# Altium schematic symbol library lamp_controller.SchLib: 88 symbols (part 1 of 3)
Pins are listed as number, name and electrical type; pins without a type are passive.

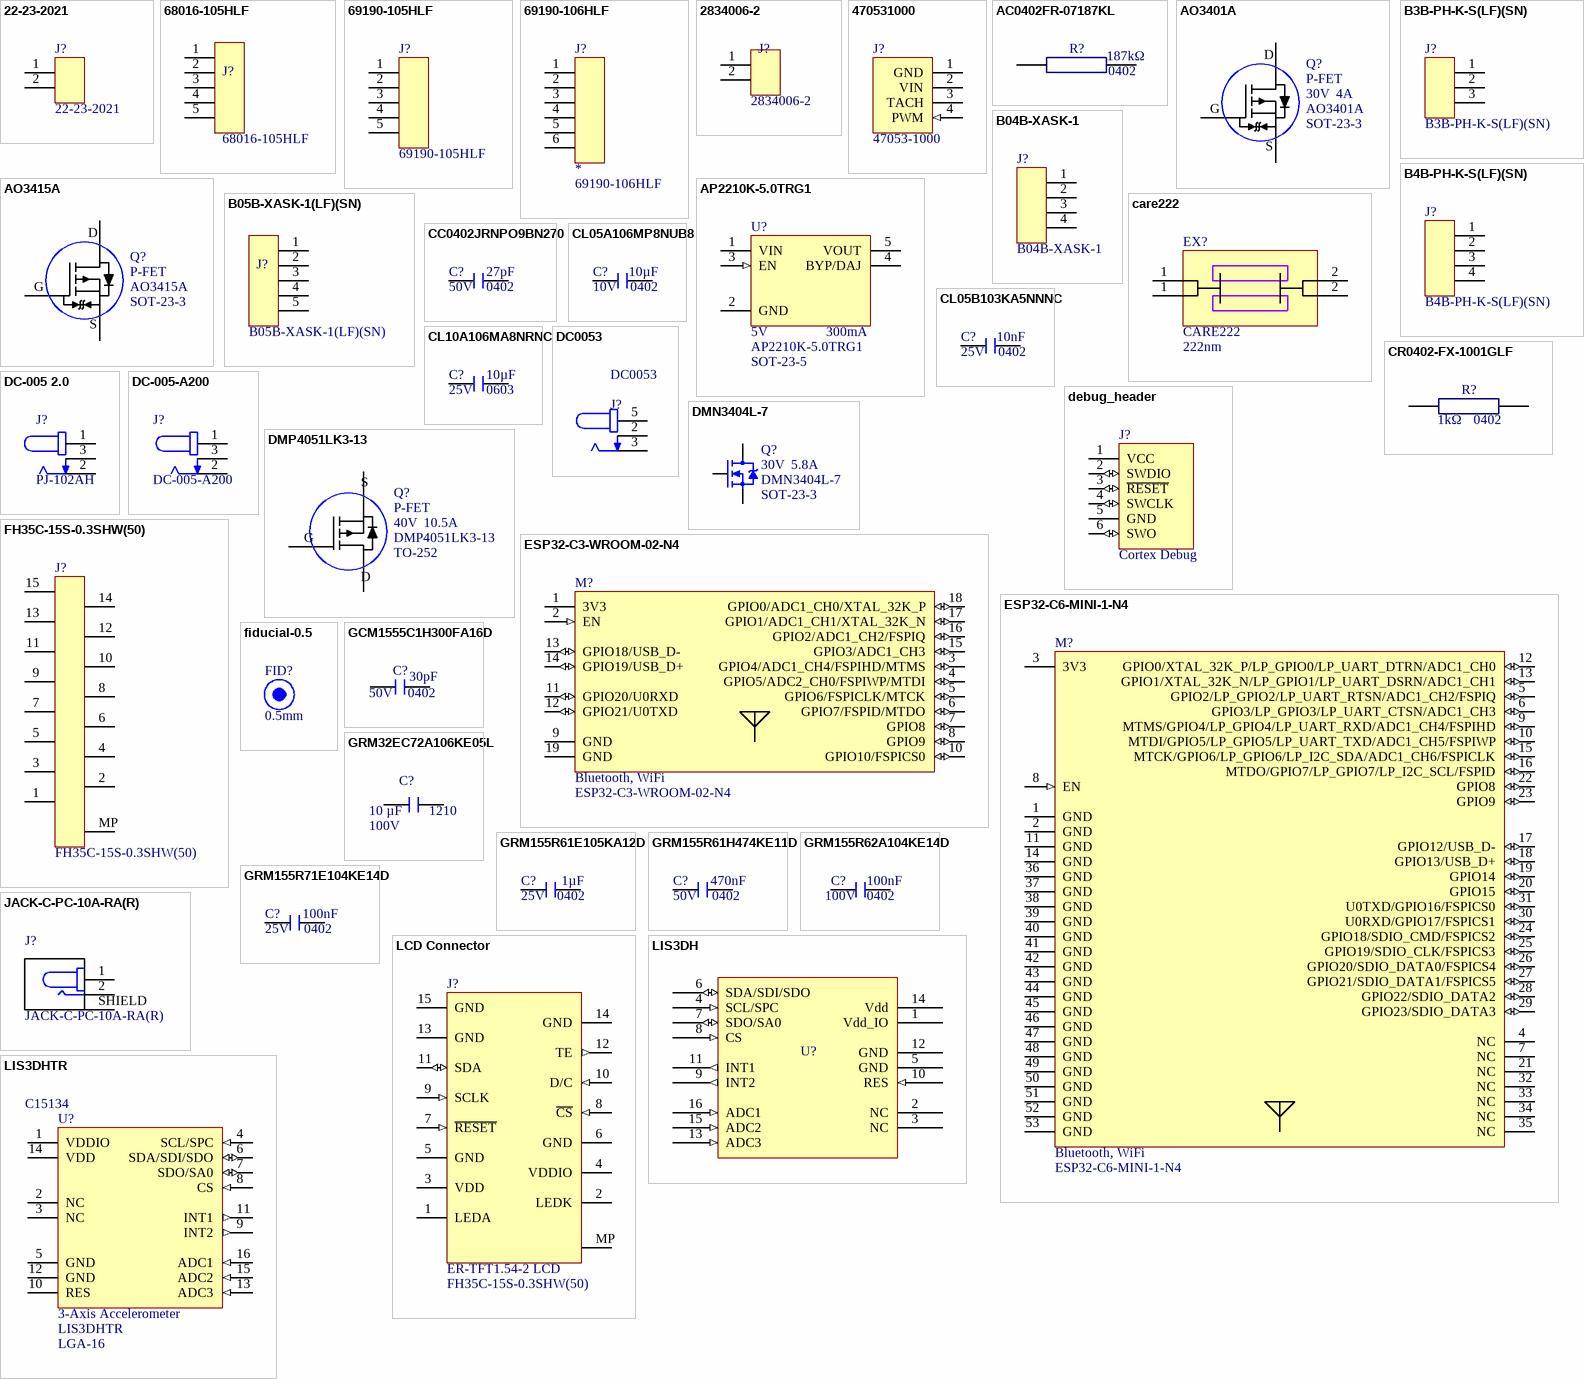
[diagram p0: symbols 22-23-2021 to LIS3DHTR]

## 22-23-2021
designator J?  Manufacturer Part Number: 22-23-2021  (hidden comment: *)
2-Pin 0.1" header, through-hole; Manufacturer: Molex; Connector Type: BOARD CONNECTOR; Option: General Purpose; Body/Shell Style: RECEPTACLE; Contact Pattern: RECTANGULAR; Contact Resistance: 10mR; Contact Style: SQ PIN-SKT; Filter Feature: No; Insertion Force-Max: 4.8928N; Insulation Resistance: 1GR; Mating Information: MULTIPLE MATING PARTS AVAILABLE; Number Of Connectors: 1; Number of Contacts: 2; Body Breadth: 0.25inch; Body Depth: 0.322inch; Body Length: 0.194inch; Mating Contact Pitch: 0.1inch; Mounting Option 1: FRICTION LOCK; Mounting Option 2: LOCKING; Plating Thickness: 100uin; Reference Standard: UL; Reliability: COMMERCIAL; Supplier 1: LCSC; RoHS: Yes; Category: Headers and Wire Housings; Stock 1: 9755; Pricing 1: 5=0.0881, 50=0.0704, 150=0.0615, 500=0.0548, 2850=0.0481, 5700=0.0454 (USD); Mounting Technology: Board; Contact Material: Brass; Contact Finish - Mating: NOT SPECIFIED; Contact Finish - Termination: Matte Tin/Copper (Sn/Cu); Insulation Color: White; Insulation Material: Nylon; JESD-609 Code: e2; Contact Gender: Male; Mixed Contacts: No; Mounting Style: STRAIGHT; Number Of PCB Rows: 1; Number of Rows Loaded: 1; PCB Contact Pattern: RECTANGULAR; Termination: Solder; Terminal Length: 0.14inch; Terminal Pitch: 2.54mm; Flammability Rating: UL94 V-0; DIN Conformance: No; IEC Conformance: No; MIL Conformance: No; Reach SVHC Compliant: Yes; RoHS Compliant: Yes; ComponentLink1URL: https://datasheet.ciiva.com:443/pdfs/VipMasterIC/IC/MOLE/MOLE-S-A0002956908/MOLE-S-A0002956550-1.pdf?src-supplier=IHS+Markit; ComponentLink1Description: https://datasheet.ciiva.com:443/pdfs/VipMasterIC/IC/MOLE/MOLE-S-A0002956908/MOLE-S-A0002956550-1.pdf?src-supplier=IHS+Markit; ComponentLink2URL: https://datasheet.ciiva.com/11746/0900766b80d8f4d1-11746058.pdf?src-supplier=Rs; ComponentLink2Description: https://datasheet.ciiva.com/11746/0900766b80d8f4d1-11746058.pdf?src-supplier=Rs; ComponentLink3URL: https://datasheet.ciiva.com/22683/1834442-22683561.pdf?src-supplier=Element14; ComponentLink3Description: https://datasheet.ciiva.com/22683/1834442-22683561.pdf?src-supplier=Element14; Supplier Part Number 1: C234180
footprint 22012027
pins: 1, 2

## 68016-105HLF
designator J?  Manufacturer Part Number: 68016-105HLF  (hidden comment: *)
Right Angle 5 position header, unshrouded, 0.100" (2.54mm); Manufacturer: Amphenol ICC / FCI; Number of Positions: 5; Current Rating: 3A; Insulation Resistance: 5GR; Voltage Rating: 1.5kV; Contact Post Length: 3.05mm; Supplier: Avnet; Supplier Part Number: 51Y8065; RoHS: No; Category: Connectors; Stock: 1974; Pricing: 1=0.518, 10=0.438, 25=0.418, 50=0.399, 100=0.38 (USD); Mounting Technology: Through Hole; Contact Plating: Gold,GXT; Contact Material: Bronze; Color: Black; Housing Material: Thermoplastic; Housing Color: Black; Min Operating Temperature: -65°C; Max Operating Temperature: 125°C; Number of Rows: 1; Termination: Solder; Contact Gender: Male; Series: BERGSTIK® II, MezzSelect™, Basics+; Packaging: Bulk; Package Quantity: 100; Contact Type: Male Pin; Number of Contacts: 5; Orientation: Right Angle; Max Voltage Rating (AC): 1.5kV; Length: 12.7mm; Pitch: 2.54mm; Contact Mating Length: 0.23inch; Depth: 9.9mm; Radiation Hardening: No; Flammability Rating: UL94 V-0; ComponentLink1URL: http://portal.fciconnect.com/Comergent/fci/drawing/68015.pdf?src-supplier=Avnet; ComponentLink1Description: http://portal.fciconnect.com/Comergent/fci/drawing/68015.pdf?src-supplier=Avnet; ComponentLink2URL: http://components.arrow.com/part/dataview/41914664S9531290N8314?src-supplier=Arrow+Electronics; ComponentLink2Description: http://components.arrow.com/part/dataview/41914664S9531290N8314?src-supplier=Arrow+Electronics; ComponentLink3URL: http://portal.fciconnect.com/Comergent//fci/drawing/68015.pdf?src-supplier=Digi-Key; ComponentLink3Description: http://portal.fciconnect.com/Comergent//fci/drawing/68015.pdf?src-supplier=Digi-Key; ComponentLink4URL: http://www.mouser.com/ds/2/154/bus-12-050-356030.pdf?src-supplier=Mouser; ComponentLink4Description: http://www.mouser.com/ds/2/154/bus-12-050-356030.pdf?src-supplier=Mouser
footprint 68016-105HLF (5-pin 0.1" header, right angle)
pins: 1, 2, 3, 4, 5

## 69190-105HLF
designator J?  Manufacturer Part Number: 69190-105HLF  (hidden comment: *)
5-pin 0.1" unshrouded header pins; Manufacturer: Amphenol ICC / FCI; Manufacturer Series: 69190; Connector Type: BOARD CONNECTOR; Option: General Purpose; Contact Pattern: RECTANGULAR; Contact Style: SQ PIN-SKT; Filter Feature: No; Number Of Connectors: 1; Number of Contacts: 5; Body Breadth: 0.095inch; Body Depth: 0.1inch; Body Length: 0.5inch; Mounting Option 1: LOCKING; Plating Thickness: 30uin; Reference Standard: UL; Reliability: COMMERCIAL; Supplier 1: Digi-Key; RoHS: Yes; Category: Connectors; Stock 1: 3670; Pricing 1: 1=0.47, 10=0.402, 100=0.3123, 500=0.26768, 1000=0.22306, 5000=0.19119, 10000=0.17845 (USD); Mounting Technology: Board; Contact Material: Bronze; Contact Finish - Termination: GOLD (30) OVER NICKEL/NICKEL PALLADIUM GOLD (30) OVER NICKEL; Insulation Color: Black; JESD-609 Code: e4; Contact Gender: Male; Mixed Contacts: No; Mounting Style: STRAIGHT; Number Of PCB Rows: 1; Number of Rows Loaded: 1; PCB Contact Pattern: RECTANGULAR; Termination: Solder; Mating Contact Pitch: 0.1inch; Terminal Length: 0.12inch; Terminal Pitch: 2.54mm; Flammability Rating: UL94 V-0; DIN Conformance: No; IEC Conformance: No; MIL Conformance: No; Reach SVHC Compliant: Yes; RoHS Compliant: Yes; ComponentLink1URL: https://datasheet.ciiva.com/721/69190-721296.pdf?src-supplier=Digi-Key; ComponentLink1Description: https://datasheet.ciiva.com/721/69190-721296.pdf?src-supplier=Digi-Key; Supplier Part Number 1: 609-69190-105HLF-ND
footprint 69190-105HLF (5-pin 0.1" header)
pins: 1, 2, 3, 4, 5

## 69190-106HLF
designator J?  Manufacturer Part Number: 69190-106HLF
6-Pin 0.1" unshrouded header pins; Manufacturer: Amphenol ICC / FCI; Manufacturer Series: 69190; Connector Type: BOARD CONNECTOR; Option: General Purpose; Contact Pattern: RECTANGULAR; Contact Style: SQ PIN-SKT; Filter Feature: No; Number Of Connectors: 1; Number of Contacts: 6; Body Breadth: 0.095inch; Body Depth: 0.1inch; Body Length: 0.6inch; Mounting Option 1: LOCKING; Plating Thickness: 30uin; Reference Standard: UL; Reliability: COMMERCIAL; Supplier 1: Mouser; RoHS: Yes; Category: Connectors; Pricing 1: 1=0.67, 10=0.521, 50=0.521, 100=0.457, 1000=0.343, 10000=0.309 (USD); Mounting Technology: Board; Contact Material: Bronze; Contact Finish - Termination: GOLD (30) OVER NICKEL/NICKEL PALLADIUM GOLD (30) OVER NICKEL; Insulation Color: Black; JESD-609 Code: e4; Contact Gender: Male; Mixed Contacts: No; Mounting Style: STRAIGHT; Number Of PCB Rows: 1; Number of Rows Loaded: 1; PCB Contact Pattern: RECTANGULAR; Termination: Solder; Mating Contact Pitch: 0.1inch; Terminal Length: 0.12inch; Terminal Pitch: 2.54mm; Flammability Rating: UL94 V-0; DIN Conformance: No; IEC Conformance: No; MIL Conformance: No; Reach SVHC Compliant: Yes; RoHS Compliant: Yes; ComponentLink1URL: https://datasheet.ciiva.com/721/69190-721132.pdf?src-supplier=Digikey; ComponentLink1Description: https://datasheet.ciiva.com/721/69190-721132.pdf?src-supplier=Digikey; Supplier Part Number 1: 649-69190-106HLF
footprint 69190-106HLF (6-pin 0.1" header)
pins: 1, 2, 3, 4, 5, 6

## 2834006-2
designator J?  Manufacturer Part Number: 2834006-2  (hidden comment: *)
2-Pin Barrier Strip Terminal Block; Manufacturer: TE Connectivity; Supplier 1: LCSC; RoHS: Yes; Category: Connectors; Stock 1: 6498; Pricing 1: 1=0.4073, 10=0.3326, 30=0.3007, 100=0.261, 500=0.2212, 800=0.21 (USD); Terminal and Terminal Block Type: BARRIER STRIP TERMINAL BLOCK; Reach SVHC Compliant: Yes; RoHS Compliant: Yes; ComponentLink1URL: https://datasheet.ciiva.com:443/pdfs/VipMasterIC/IC/TYEL/TYEL-S-A0008901127/TYEL-S-A0008894062-1.pdf?src-supplier=IHS+Markit; ComponentLink1Description: https://datasheet.ciiva.com:443/pdfs/VipMasterIC/IC/TYEL/TYEL-S-A0008901127/TYEL-S-A0008894062-1.pdf?src-supplier=IHS+Markit; ComponentLink2URL: http://www.mouser.com/ds/2/418/NG_CD_2834006_A-773085.pdf?src-supplier=Mouser; ComponentLink2Description: http://www.mouser.com/ds/2/418/NG_CD_2834006_A-773085.pdf?src-supplier=Mouser; ComponentLink3URL: http://www.farnell.com/datasheets/2299783.pdf?src-supplier=Farnell; ComponentLink3Description: http://www.farnell.com/datasheets/2299783.pdf?src-supplier=Farnell; ComponentLink4URL: http://www.farnell.com/datasheets/2299783.pdf?src-supplier=Element14; ComponentLink4Description: http://www.farnell.com/datasheets/2299783.pdf?src-supplier=Element14; ComponentLink5URL: http://www.farnell.com/datasheets/2017940.pdf?src-supplier=Element14; ComponentLink5Description: http://www.farnell.com/datasheets/2017940.pdf?src-supplier=Element14; ComponentLink6URL: https://www.te.com/commerce/DocumentDelivery/DDEController?Action=srchrtrv&amp;DocNm=2834006&amp;DocType=Customer+Drawing&amp;DocLang=English&src-supplier=Digi-Key; ComponentLink6Description: https://www.te.com/commerce/DocumentDelivery/DDEController?Action=srchrtrv&amp;DocNm=2834006&amp;DocType=Customer+Drawing&amp;DocLang=English&src-supplier=Digi-Key; Supplier Part Number 1: C86483
footprint 2834006-2 (2-Pin spring clamp terminal)
pins: 1, 2

## 470531000
designator J?  Manufacturer Part Number: 47053-1000  (hidden comment: *)
4-pin PC Fan connector; Manufacturer: Molex; Number of Positions: 4; Connector Type: Male Pin; Gender: Male; Pitch: 0.1inch; RoHS: Yes; Category: Headers and Wire Housings; Mount: Through Hole; Color: White; Contact Plating: Gold; Package Quantity: 2000; Number of Rows: 1; Fastening Type: Friction; Packaging: Bulk; Termination: Solder; Number of Contacts: 4; Contact Mating Length: 0.318inch; ComponentLink1URL: https://datasheet.ciiva.com/6839/022112026-sd-6839692.pdf?src-supplier=Digi-Key; ComponentLink1Description: https://datasheet.ciiva.com/6839/022112026-sd-6839692.pdf?src-supplier=Digi-Key; ComponentLink2URL: https://datasheet.ciiva.com/10090/022232051-sd-10090167.pdf?src-supplier=Avnet; ComponentLink2Description: https://datasheet.ciiva.com/10090/022232051-sd-10090167.pdf?src-supplier=Avnet
footprint 470531000
pins: 1 GND (power), 2 VIN (power), 3 TACH (oc), 4 PWM (in)

## AC0402FR-07187KL
designator R?  Case/Package: 0402  Resistance: 187kΩ  (hidden comment: *)
187 kΩ, 1%, 0402 Chip resistor; Manufacturer: Yageo; Manufacturer Part Number: AC0402FR-07187KL; Additional Feature: LASER TRIMMABLE; Power: 62.5mW; Rated Temperature: 70°C; Working Voltage: 50V; Temperature Coefficient (ppm/Cel): 100; Package Height: 0.32mm; Package Length: 1mm; Package Width: 0.5mm; Reference Standard: AEC-Q200; Supplier 1: Digikey; RoHS: Yes; Category: Chip SMD Resistors; Stock 1: 17067; Pricing 1: 1=0.1, 10=0.005, 50=0.0046, 100=0.0041, 500=0.00306, 10000=0.00204, 20000=0.00194, 30000=0.00183 (USD); Mounting Technology: Surface Mount; Pins: 2; Package Shape: Rectangular; Terminal Finish: Nickel; Min Operating Temperature: -55°C; Max Operating Temperature: 155°C; Tolerance: 1%; JESD-609 Code: e3; Resistor Type: FIXED RESISTOR; Construction: Chip; Packaging: Tape and Reel; Technology: METAL GLAZE/THICK FILM; Termination: Wraparound; Reach SVHC Compliant: Yes; RoHS Compliant: Yes; ComponentLink1URL: https://datasheet.ciiva.com:443/pdfs/VipMasterIC/IC/YAGO/YAGO-S-A0003597364/YAGO-S-A0003597364-1.pdf?src-supplier=IHS+Markit; ComponentLink1Description: https://datasheet.ciiva.com:443/pdfs/VipMasterIC/IC/YAGO/YAGO-S-A0003597364/YAGO-S-A0003597364-1.pdf?src-supplier=IHS+Markit; ComponentLink2URL: http://www.yageo.com/NewPortal/yageodocoutput?fileName=/pdf/R-Chip/PYu-AC_51_RoHS_L_6.pdf&src-supplier=Digikey; ComponentLink2Description: http://www.yageo.com/NewPortal/yageodocoutput?fileName=/pdf/R-Chip/PYu-AC_51_RoHS_L_6.pdf&src-supplier=Digikey; ComponentLink3URL: https://datasheet.octopart.com/AC0402FR-07187KL-Yageo-datasheet-166720450.pdf?src-supplier=Future+Electronics; ComponentLink3Description: https://datasheet.octopart.com/AC0402FR-07187KL-Yageo-datasheet-166720450.pdf?src-supplier=Future+Electronics; Supplier Part Number 1: 13-AC0402FR-07187KLCT-ND
footprint 0402_resistor (Chip Resistor, 2-Leads, Body 1.00x0.50mm, IPC Medium Density)
pins: 1, 2

## AO3401A
designator Q?, comment P-FET  Package: SOT-23-3  Manufacturer Part Number: AO3401A  DS Breakdown Voltage-Min: 30V  Drain Current-Max (ID): 4A
P-FET, 30V, 4A, SOT-23-3; Manufacturer: Alpha & Omega Semiconductor; Transistor Element Material: SILICON; Number of Elements: 1; Polarity/Channel Type: P-CHANNEL; Drain-source On Resistance-Max: 50mR; FET Technology: METAL-OXIDE SEMICONDUCTOR; Operating Mode: ENHANCEMENT MODE; Power Dissipation-Max (Abs): 1.4W; Transistor Application: SWITCHING; Package Body Material: Plastic; Supplier 1: LCSC; RoHS: Yes; Category: MOSFETs; Stock 1: 274360; Pricing 1: 10=0.0527, 100=0.0437, 300=0.039, 3000=0.0352, 6000=0.0338, 9000=0.0329 (USD); Pins: 3; Package Shape: Rectangular; Max Operating Temperature: 150°C; JESD-30 Code: R-PDSO-G3; Package Style: SMALL OUTLINEMeter; Surface Mount: Yes; Terminal Form: Gull Wing; Terminal Position: DUAL; Drain Current-Max (Abs) (ID): 4A; RoHS Compliant: Yes; Reach SVHC Compliant: Yes; ComponentLink1URL: https://datasheet.ciiva.com:443/pdfs/VipMasterIC/IC/ALOM/ALOMS00379/ALOMS00379-1.pdf?src-supplier=IHS+Markit; ComponentLink1Description: https://datasheet.ciiva.com:443/pdfs/VipMasterIC/IC/ALOM/ALOMS00379/ALOMS00379-1.pdf?src-supplier=IHS+Markit; ComponentLink2URL: https://datasheet.ciiva.com/940/ao3401a-940720.pdf?src-supplier=Digikey; ComponentLink2Description: https://datasheet.ciiva.com/940/ao3401a-940720.pdf?src-supplier=Digikey; ComponentLink3URL: https://datasheet.ciiva.com/26927/getdatasheetpartid-79048-26927888.pdf?src-supplier=Verical; ComponentLink3Description: https://datasheet.ciiva.com/26927/getdatasheetpartid-79048-26927888.pdf?src-supplier=Verical; Supplier Part Number 1: C15127
footprint SOT95P280X115-3N (SOT23, 3-Leads, Body 2.92x2.80mm, Pitch 0.95mm, IPC Medium Density)
pins: 1 G, 2 S, 3 D

## AO3415A
designator Q?, comment P-FET  Case/Package: SOT-23-3  Manufacturer Part Number: AO3415A
P-FET, 20V, 5A, SOT-23-3; Manufacturer: Alpha & Omega Semiconductor; Rds On Max: 45mΩ; Input Capacitance: 940pF; Max Power Dissipation: 1.5W; Threshold Voltage: 8mV; Turn-Off Delay Time: 19ps; Turn-On Delay Time: 13ps; Supplier: Arrow Electronics; Supplier Part Number: AO3415A; RoHS: Yes; Category: MOSFETs; Stock: 21000; Pricing: 3000=0.3033, 6000=0.3003, 9000=0.2972, 15000=0.2942, 24000=0.2912, 30000=0.2881 (USD); Mounting Technology: Surface Mount; Pins: 3; Min Operating Temperature: -55°C; Max Operating Temperature: 150°C; Series: -; Packaging: Cut Tape; Drain to Source Voltage (Vdss): 20V; Continuous Drain Current (ID): 5A; RoHS Compliant: Yes; ComponentLink1URL: https://datasheet.ciiva.com/940/ao3415-940752.pdf?src-supplier=Digikey; ComponentLink1Description: https://datasheet.ciiva.com/940/ao3415-940752.pdf?src-supplier=Digikey; ComponentLink2URL: https://datasheet.ciiva.com/940/ao3415-940753.pdf?src-supplier=Digikey; ComponentLink2Description: https://datasheet.ciiva.com/940/ao3415-940753.pdf?src-supplier=Digikey; Supplier 1: LCSC; Supplier Part Number 1: C133233; house_part_number: AO3415A
footprint SOT95P280X115-3N (SOT23, 3-Leads, Body 2.92x2.80mm, Pitch 0.95mm, IPC Medium Density)
pins: 1 G, 2 S, 3 D

## AP2210K-5.0TRG1
designator U?  Case/Package: SOT-23-5  Output Current1-Max: 300mA  Output Voltage1-Nom: 5V  Manufacturer Part Number: AP2210K-5.0TRG1  (hidden comment: *)
5 V, 300 mA LDO, SOT-23-5; Manufacturer: Diodes; Package Body Material: Plastic; Dropout Voltage1-Max: 500mV; Max Supply Voltage: 13.2V; Min Input Voltage: 6V; Channels: 1; Output Voltage1-Max: 5.1V; Output Voltage1-Min: 4.9V; Regulator Type: FIXED POSITIVE SINGLE OUTPUT LDO REGULATOR; Supplier 1: LCSC; RoHS: Yes; Category: Voltage Regulators - Linear; Stock 1: 4255; Pricing 1: 5=0.1337, 50=0.1058, 150=0.0919, 500=0.0815, 3000=0.0657, 6000=0.0615 (USD); Pins: 5; Package Shape: Rectangular; Terminal Finish: Tin; JESD-609 Code: e3; JESD-30 Code: R-PDSO-G5; Moisture Sensitivity Level: 3; Operating Temperature, TJ-Max: 125°C; Operating Temperature, TJ-Min: -40°C; Package Style: SMALL OUTLINE, LOW PROFILE, SHRINK PITCHMeter; Surface Mount: Yes; Terminal Form: Gull Wing; Terminal Position: DUAL; Length: 2.9mm; Width: 1.6mm; Height - Seated (Max): 1.45mm; Terminal Pitch: 0.95mm; Reach SVHC Compliant: Yes; RoHS Compliant: Yes; ComponentLink1URL: https://datasheet.ciiva.com:443/pdfs/VipMasterIC/IC/DIOD/DIOD-S-A0002238385/DIOD-S-A0002238385-1.pdf?src-supplier=IHS+Markit; ComponentLink1Description: https://datasheet.ciiva.com:443/pdfs/VipMasterIC/IC/DIOD/DIOD-S-A0002238385/DIOD-S-A0002238385-1.pdf?src-supplier=IHS+Markit; ComponentLink2URL: https://datasheet.ciiva.com/29569/ap2210-29569974.pdf?src-supplier=Digikey; ComponentLink2Description: https://datasheet.ciiva.com/29569/ap2210-29569974.pdf?src-supplier=Digikey; ComponentLink3URL: https://datasheet.ciiva.com/29569/ap2210-29569975.pdf?src-supplier=Digikey; ComponentLink3Description: https://datasheet.ciiva.com/29569/ap2210-29569975.pdf?src-supplier=Digikey; ComponentLink4URL: https://datasheet.ciiva.com/29569/ap2210-29569976.pdf?src-supplier=Digikey; ComponentLink4Description: https://datasheet.ciiva.com/29569/ap2210-29569976.pdf?src-supplier=Digikey; Supplier Part Number 1: C500758
footprint SOT-23-5 (SOT23, 5-Leads, Body 2.90x2.80mm, Pitch 0.95mm, IPC Medium Density)
pins: 1 VIN (power) "Input voltage", 2 GND (power) "Ground", 3 EN (in) "Enable input: CMOS or TTL compatible input. Logic high=enable, logic low=shutdown", 4 BYP/DAJ (power) "Bypass capacitor for low noise operation/Adjustable Output", 5 VOUT (power) "Regulated output voltage"

## B3B-PH-K-S(LF)(SN)
designator J?
3-Pin JST PH header, 2mm pitch, Through Hole; Number of Positions: 3; Current Rating: 2A; Contact Resistance: 20mR; Voltage Rating (AC): 100V; Insulation Resistance: 1MR; Gender: Male; Contact Post Length: 0.134inch; Mated Stacking Heights: 8mm; ComponentLink1URL: https://datasheet.ciiva.com/6747/80560-6747392.pdf; ComponentLink1Description: https://datasheet.ciiva.com/6747/80560-6747392.pdf; ComponentLink2URL: https://datasheet.ciiva.com/11746/0900766b8082f551-11746676.pdf; ComponentLink2Description: https://datasheet.ciiva.com/11746/0900766b8082f551-11746676.pdf; ComponentLink3URL: https://datasheet.ciiva.com/8052/80560-8052022.pdf; ComponentLink3Description: https://datasheet.ciiva.com/8052/80560-8052022.pdf; ComponentLink4URL: https://datasheet.ciiva.com/712/eph-712442.pdf; ComponentLink4Description: https://datasheet.ciiva.com/712/eph-712442.pdf; ComponentLink5URL: https://datasheet.ciiva.com/16422/b2b-ph-k-slfsn-16422715.pdf; ComponentLink5Description: https://datasheet.ciiva.com/16422/b2b-ph-k-slfsn-16422715.pdf; Supplier: Newark; Supplier Part Number: 37K9946; Manufacturer: JST; RoHS: Yes; Category: Headers and Wire Housings; Stock: 955386; Pricing: 1=0.03800, 10=0.03800, 100=0.03800, 500=0.03800, 1000=0.03800, 5000=0.03800, 10000=0.03800 (USD); Mounting Technology: Through Hole; Pins: 3; Contact Plating: Tin,Copper; Color: Natural; Contact Material: Brass; Housing Color: White; Housing Material: Polyamide; Contact Shape: Square; Contact Finish - Mating: TIN; Insulation Material: Nylon; Insulation Color: Natural; Min Operating Temperature: -25°C; Max Operating Temperature: 85°C; Number of Rows: 1; Packaging: Bulk; Connector Type: Header; Series: PH; Contact Type: Male Pin; Max Current Rating: 2A; Number of Poles: 3; Voltage Rating: 100V; Termination: Press-Fit; Fastening Type: Detent; Number of Contacts: 3; Max Voltage Rating (AC): 100V; Max Voltage Rating (DC): 100V; Working Voltage: 100V; Orientation: Straight; Length: 7.9mm; Width: 4.5mm; Height: 9.4mm; Pitch: 2mm; Lead Pitch: 2mm; Contact Mating Length: 0.13inch; Depth: 4.5mm; Insulation Height: 0.236inch; Lead Free: Lead Free; Reach SVHC Compliant: Yes; Flammability Rating: UL94 V-0; ComponentLink6URL: https://datasheet.ciiva.com/6747/80560-6747401.pdf?src-supplier=Newark; ComponentLink6Description: https://datasheet.ciiva.com/6747/80560-6747401.pdf?src-supplier=Newark; ComponentLink7URL: https://datasheet.ciiva.com/11746/0900766b80826550-11746939.pdf?src-supplier=Rs; ComponentLink7Description: https://datasheet.ciiva.com/11746/0900766b80826550-11746939.pdf?src-supplier=Rs; ComponentLink8URL: https://datasheet.ciiva.com/16200/eph-16200926.pdf?src-supplier=Future+Electronics; ComponentLink8Description: https://datasheet.ciiva.com/16200/eph-16200926.pdf?src-supplier=Future+Electronics; ComponentLink9URL: https://datasheet.ciiva.com/26894/getdatasheetpartid-448114-26894774.pdf?src-supplier=Verical; ComponentLink9Description: https://datasheet.ciiva.com/26894/getdatasheetpartid-448114-26894774.pdf?src-supplier=Verical; ComponentLink10URL: https://datasheet.ciiva.com/26924/getdatasheetpartid-651387-26924028.pdf?src-supplier=Verical; ComponentLink10Description: https://datasheet.ciiva.com/26924/getdatasheetpartid-651387-26924028.pdf?src-supplier=Verical; ComponentLink11URL: https://datasheet.ciiva.com/712/eph-712455.pdf?src-supplier=Digi-Key; ComponentLink11Description: https://datasheet.ciiva.com/712/eph-712455.pdf?src-supplier=Digi-Key; ComponentLink12URL: https://datasheet.ciiva.com/43491/741202-da-01-en-stiftleiste-gerade-3-pol-rm2-0-43491962.pdf?src-supplier=Conrad; ComponentLink12Description: https://datasheet.ciiva.com/43491/741202-da-01-en-stiftleiste-gerade-3-pol-rm2-0-43491962.pdf?src-supplier=Conrad; Manufacturer Part Number: B3B-PH-K-S(LF)(SN)
footprint B3B-PH-K-S(LF)(SN)
pins: 1, 2, 3

## B4B-PH-K-S(LF)(SN)
designator J?  Manufacturer Part Number: B4B-PH-K-S(LF)(SN)  (hidden comment: *)
4-Pin JST PH header, 2mm pitch, Through Hole; Current Rating: 2A; Voltage Rating: 100V; Contact Resistance: 20mR; Number of Poles: 4; Insulation Resistance: 1MR; Gender: Male; Supplier 1: Digi-Key; Manufacturer: JST; RoHS: Yes; Category: Connectors; Pricing 1: 1=0.26, 10=0.22, 100=0.1693, 500=0.14326, 1000=0.11722, 5000=0.10419, 10000=0.09443 (USD); Mounting Technology: Through Hole; Pins: 4; Contact Material: Brass,Tin; Contact Plating: Tin,Copper; Color: Natural; Housing Color: White; Housing Material: Polyamide; Material: Polyamide; Min Operating Temperature: -25°C; Max Operating Temperature: 85°C; Number of Rows: 1; Max Current Rating: 2A; Voltage Rating (AC): 100V; Packaging: Bulk; Number of Positions: 4; Termination: Solder; Fastening Type: Detent; Number of Contacts: 4; Max Voltage Rating (AC): 100V; Max Voltage Rating (DC): 100V; Working Voltage: 100V; Orientation: Straight; Series: PH; Contact Type: Male Pin; Length: 9.9mm; Width: 4.5mm; Height: 9.4mm; Pitch: 2mm; Lead Pitch: 2mm; Contact Mating Length: 0.13inch; Depth: 4.5mm; Reach SVHC Compliant: No; Lead Free: Lead Free; ComponentLink1URL: https://datasheet.ciiva.com/11747/0900766b8082f552-11747200.pdf?src-supplier=Rs; ComponentLink1Description: https://datasheet.ciiva.com/11747/0900766b8082f552-11747200.pdf?src-supplier=Rs; ComponentLink2URL: https://datasheet.ciiva.com/16209/eph-16209245.pdf?src-supplier=Future+Electronics; ComponentLink2Description: https://datasheet.ciiva.com/16209/eph-16209245.pdf?src-supplier=Future+Electronics; ComponentLink3URL: https://datasheet.ciiva.com/712/eph-712488.pdf?src-supplier=Digi-Key; ComponentLink3Description: https://datasheet.ciiva.com/712/eph-712488.pdf?src-supplier=Digi-Key; ComponentLink4URL: https://datasheet.ciiva.com/43491/741223-da-01-en-stiftleiste-gerade-4-pol-rm2-0-43491964.pdf?src-supplier=Conrad; ComponentLink4Description: https://datasheet.ciiva.com/43491/741223-da-01-en-stiftleiste-gerade-4-pol-rm2-0-43491964.pdf?src-supplier=Conrad; Supplier Part Number 1: 455-1706-ND
footprint B4B-PH-K-S(LF)(SN)
pins: 1, 2, 3, 4

## B04B-XASK-1
designator J?  Manufacturer Part Number: B04B-XASK-1  (hidden comment: *)
4-pin JST XA header, 2.5mm pitch, through-hole; Supplier 1: Digi-Key; Manufacturer: JST; RoHS: No; Category: Connectors; Stock 1: 159148; Pricing 1: 1=0.32, 10=0.269, 100=0.2093, 500=0.17938, 1000=0.14948, 5000=0.12812, 10000=0.11958 (USD); ComponentLink1URL: https://datasheet.ciiva.com/719/exa1-719638.pdf?src-supplier=Digi-Key; ComponentLink1Description: https://datasheet.ciiva.com/719/exa1-719638.pdf?src-supplier=Digi-Key; Supplier Part Number 1: 455-B04B-XASK-1-ND
footprint B04B-XASK-1 (JST XA 2.5mm header)
pins: 1, 2, 3, 4

## B05B-XASK-1(LF)(SN)
designator J?  Manufacturer Part Number: B05B-XASK-1(LF)(SN)  (hidden comment: *)
5-Pin JST XA header, 2.5mm pitch, through-hole; Supplier 1: LCSC; Manufacturer: JST; RoHS: Yes; Category: Headers and Wire Housings; Stock 1: 386434; Pricing 1: 5=0.0789, 50=0.0632, 150=0.0545, 400=0.0493, 2400=0.0448, 4800=0.0423 (USD); ComponentLink1URL: https://datasheet.ciiva.com/29316/741366-da-01-en-stiftleise-5-pol-rm-2-5mm-29316939.pdf?src-supplier=Conrad; ComponentLink1Description: https://datasheet.ciiva.com/29316/741366-da-01-en-stiftleise-5-pol-rm-2-5mm-29316939.pdf?src-supplier=Conrad; ComponentLink2URL: https://datasheet.ciiva.com/16417/exa1-16417502.pdf?src-supplier=Future+Electronics; ComponentLink2Description: https://datasheet.ciiva.com/16417/exa1-16417502.pdf?src-supplier=Future+Electronics; ComponentLink3URL: https://datasheet.ciiva.com/726/exa1-726107.pdf?src-supplier=Digikey; ComponentLink3Description: https://datasheet.ciiva.com/726/exa1-726107.pdf?src-supplier=Digikey; Supplier Part Number 1: C265079
footprint B05B-XASK-1 (JST XA 2.5mm header)
pins: 1, 2, 3, 4, 5

## care222
designator EX?  Manufacturer Part Number: CARE222  wavelength: 222nm  (mechanical)
USHIO Care222 222nm excimer lamp
footprint care222 (USHIO 222nm excimer emitter)
pins: 1 (power), 1 (power), 2 (power), 2 (power)

## CC0402JRNPO9BN270
designator C?  value 27pF  Voltage Rating (DC): 50V  Case/Package: 0402  (hidden comment: CC0402JRNPO9BN270)
27 pF, 25 V, X7R, 0402 Chip capacitor; Manufacturer: Yageo; house_part_number: C-27pF-0402-002; Tolerance: 5%; Dielectric: C0G; Supplier 1: Future Electronics; Supplier Part Number 1: 9741513; Manufacturer Part Number: CC0402JRNPO9BN270; RoHS: Yes; Category: Ceramic Capacitors; Stock: 1230000; Pricing: 10000=0.0024, 40000=0.0022, 150000=0.0021, 400000=0.002, 1000000=0.0019 (USD); Mounting Technology: Surface Mount; Pins: 2; Case Code (Metric): 1005; Case Code (Imperial): 0402; Min Operating Temperature: -55°C; Max Operating Temperature: 125°C; Voltage Rating: 50V; Package Quantity: 1; Packaging: Tape and Reel; Termination: SMD/SMT; Series: CC; Length: 1mm; Width: 0.02inch; Thickness: 0.022inch; Depth: 0.5mm; Radiation Hardening: No; Reach SVHC Compliant: No; Lead Free: Lead Free; RoHS Compliant: Yes; ComponentLink1URL: https://datasheet.ciiva.com/26862/getdatasheetpartid-403452-26862597.pdf?src-supplier=Verical; ComponentLink1Description: https://datasheet.ciiva.com/26862/getdatasheetpartid-403452-26862597.pdf?src-supplier=Verical; ComponentLink2URL: https://datasheet.ciiva.com/28450/1443161-28450249.pdf?src-supplier=Element14; ComponentLink2Description: https://datasheet.ciiva.com/28450/1443161-28450249.pdf?src-supplier=Element14; ComponentLink3URL: https://datasheet.ciiva.com/176/mlccorderingcode-176355.pdf?src-supplier=Digikey; ComponentLink3Description: https://datasheet.ciiva.com/176/mlccorderingcode-176355.pdf?src-supplier=Digikey; ComponentLink4URL: https://datasheet.ciiva.com/176/mlccorderingcode-176354.pdf?src-supplier=Digikey; ComponentLink4Description: https://datasheet.ciiva.com/176/mlccorderingcode-176354.pdf?src-supplier=Digikey; ComponentLink5URL: https://datasheet.ciiva.com/176/mlccorderingcode-176356.pdf?src-supplier=Digikey; ComponentLink5Description: https://datasheet.ciiva.com/176/mlccorderingcode-176356.pdf?src-supplier=Digikey; ComponentLink6URL: https://datasheet.ciiva.com/13386/upy-gp-np0-16v-to-50v-8-13386281.pdf?src-supplier=Mouser; ComponentLink6Description: https://datasheet.ciiva.com/13386/upy-gp-np0-16v-to-50v-8-13386281.pdf?src-supplier=Mouser
footprint 0402_capacitor (0402 chip capacitor)
pins: 1, 2

## CL05A106MP8NUB8
designator C?  Capacitance: 10µF  Voltage Rating: 10V  Case Code (Imperial): 0402  (hidden comment: *)
10 µF, 10 V, X5R, 0402 Chip capacitor; Manufacturer: Samsung; Manufacturer Part Number: CL05A106MP8NUB8; Tolerance: 20%; Supplier 1: Digi-Key; Supplier Part Number 1: 1276-6830-1-ND; RoHS: Yes; Category: Ceramic Capacitors; Stock 1: 740658; Pricing 1: 1=0.36000, 10=0.25300, 50=0.17720, 100=0.15180, 500=0.11384, 1000=0.09614, 2500=0.09108 (USD); Mount: Surface Mount; Case/Package: 0402; Case Code (Metric): 1005; Min Operating Temperature: -55°C; Max Operating Temperature: 85°C; Packaging: Tape and Reel; Length: 0.039inch; Width: 0.02inch; Thickness: 0.035inch; RoHS Compliant: Yes; ComponentLink1URL: http://www.samsungsem.com/kr/support/product-search/mlcc/CL05A106MP8NUB8.jsp?src-supplier=Digi-Key; ComponentLink1Description: http://www.samsungsem.com/kr/support/product-search/mlcc/CL05A106MP8NUB8.jsp?src-supplier=Digi-Key
footprint 0402_capacitor (0402 chip capacitor)
pins: 1, 2

## CL05B103KA5NNNC
designator C?  Capacitance: 10nF  Voltage Rating: 25V  Case Code (Imperial): 0402  (hidden comment: *)
10 nF, 25 V, X7R, 0402 Chip capacitor; Manufacturer: Samsung; Manufacturer Part Number: CL05B103KA5NNNC; Tolerance: 10%; Supplier 1: Digi-Key; Supplier Part Number 1: 1276-1057-2-ND; RoHS: Yes; Category: Ceramic Capacitors; Stock 1: 2318300; Pricing 1: 10000=0.00328, 20000=0.00312, 30000=0.00297, 50000=0.00266, 100000=0.00215, 250000=0.00195 (USD); Mount: Surface Mount; Case/Package: 0402; Case Code (Metric): 1005; Contact Plating: Tin; Min Operating Temperature: -55°C; Max Operating Temperature: 125°C; Packaging: Tape and Reel; Package Quantity: 1; Dielectric: X7R; Series: CL; Construction: Flat; Length: 1mm; Width: 0.02inch; Height: 0.5mm; Thickness: 0.022inch; Depth: 0.5mm; Radiation Hardening: No; RoHS Compliant: Yes; ComponentLink1URL: https://datasheet.ciiva.com/15195/getdatasheetpartid-358612-15195635.pdf?src-supplier=Verical; ComponentLink1Description: https://datasheet.ciiva.com/15195/getdatasheetpartid-358612-15195635.pdf?src-supplier=Verical; ComponentLink2URL: https://datasheet.ciiva.com/16740/cl05b104kq5nnnc-16740683.pdf?src-supplier=Future+Electronics; ComponentLink2Description: https://datasheet.ciiva.com/16740/cl05b104kq5nnnc-16740683.pdf?src-supplier=Future+Electronics
footprint 0402_capacitor (0402 chip capacitor)
pins: 1, 2

## CL10A106MA8NRNC
designator C?, comment value 10µF  Voltage Rating: 25V  Case/Package: 0603  (hidden comment: CC0402JRNPO9BN300)
10 µF, 25 V, X5R, 0603 Chip capacitor; Manufacturer: Samsung; Manufacturer Part Number: CL10A106MA8NRNC; house_part_number: C-10uF-0603-002; Material: 4241ConductorMaterial; Tolerance: 20%; Supplier 1: Arrow Electronics; Supplier Part Number 1: CL10A106MA8NRNC; RoHS: Yes; Category: Ceramic Capacitors; Stock: 632000; Pricing: 4000=0.0511, 8000=0.046, 12000=0.0434, 28000=0.0413, 100000=0.0356 (USD); Mounting Technology: Surface Mount; Case Code (Metric): 1608; Case Code (Imperial): 0603; Min Operating Temperature: -55°C; Max Operating Temperature: 85°C; Packaging: Cut Tape; Series: CL; Height: 900um; Lead Free: Lead Free; RoHS Compliant: Yes; ComponentLink1URL: https://datasheet.ciiva.com/25766/cl10a106ma8nrnc-25766562.pdf?src-supplier=Digikey; ComponentLink1Description: https://datasheet.ciiva.com/25766/cl10a106ma8nrnc-25766562.pdf?src-supplier=Digikey
footprint 0603_capacitor (Chip Capacitor, 2-Leads, Body 1.60x0.80mm, IPC Medium Density)
pins: 1, 2

## CR0402-FX-1001GLF
designator R?  Size Code: 0402  Resistance: 1kΩ  (hidden comment: *)
1 kΩ, 0402 Chip resistor; Manufacturer: Bourns; Manufacturer Part Number: CR0402-FX-1001GLF; Tolerance: 1%; Rated Power Dissipation (P): 62.5mW; Rated Temperature: 70°C; Temperature Coefficient: 100ppm/°C; Working Voltage: 50V; Package Height: 0.35mm; Package Length: 1mm; Package Width: 0.5mm; Supplier 1: Digi-Key; RoHS: Yes; Category: Chip SMD Resistors; Stock 1: 398310; Pricing 1: 10000=0.00114 (USD); Mount: Surface Mount; Number of Pins: 2; Package Shape: Rectangular; Terminal Finish: Nickel; Min Operating Temperature: -55°C; Max Operating Temperature: 125°C; JESD-609 Code: e3; Resistor Type: FIXED RESISTOR; Construction: Chip; Package Style: SMTMeter; Packaging: Tape and Reel; Technology: RUTHENIUM OXIDE; Termination: Wraparound; REACH SVHC: Yes; RoHS Compliant: Yes; ComponentLink1URL: https://datasheet.ciiva.com:443/pdfs/VipMasterIC/IC/BOUR/BOUR-S-A0008953887/BOUR-S-A0008953887-1.pdf?src-supplier=IHS+Markit; ComponentLink1Description: https://datasheet.ciiva.com:443/pdfs/VipMasterIC/IC/BOUR/BOUR-S-A0008953887/BOUR-S-A0008953887-1.pdf?src-supplier=IHS+Markit; ComponentLink2URL: https://datasheet.ciiva.com/5734/1845296-5734926.pdf?src-supplier=Farnell; ComponentLink2Description: https://datasheet.ciiva.com/5734/1845296-5734926.pdf?src-supplier=Farnell; ComponentLink3URL: https://datasheet.ciiva.com/11821/0900766b80fcdb41-11821108.pdf?src-supplier=RSComponents; ComponentLink3Description: https://datasheet.ciiva.com/11821/0900766b80fcdb41-11821108.pdf?src-supplier=RSComponents; ComponentLink4URL: https://datasheet.ciiva.com/9123/cr0402-9123631.pdf?src-supplier=Avnet; ComponentLink4Description: https://datasheet.ciiva.com/9123/cr0402-9123631.pdf?src-supplier=Avnet; ComponentLink5URL: https://datasheet.ciiva.com/30154/cr0402-30154590.pdf?src-supplier=Onlinecomponents.com; ComponentLink5Description: https://datasheet.ciiva.com/30154/cr0402-30154590.pdf?src-supplier=Onlinecomponents.com; Supplier Part Number 1: CR0402-FX-1001GLFTR-ND
footprint 0402_resistor (Chip Resistor, 2-Leads, Body 1.00x0.50mm, IPC Medium Density)
pins: 1, 2

## DC0053
designator J?  Manufacturer Part Number: DC0053  (hidden comment: *)
5.5 mm x 2 mm Barrel jack; Manufacturer: SHOU HAN; Supplier 1: LCSC; RoHS: No; Category: Uncategorized; Stock 1: 2415; Pricing 1: 5=0.0927, 50=0.0762, 150=0.0679, 500=0.0565, 2500=0.0515, 5000=0.0491 (USD); Supplier Part Number 1: C668601
footprint DC0053 (5.5mm x 2 mm Barrel jack)
pins: 2 SWITCH, 3 SLEEVE, 5 TIP

## DC-005 2.0
designator J?  Manufacturer Part Number: PJ-102AH  (hidden comment: *)
2x5.5 mm Barrel jack; Voltage Rating: 24V; Gender: Male; Shielding: Unshielded; Current Rating: 5A; Insulation Resistance: 50MR; Number of Conductors: 2; Mount: Through Hole; Color: Black; Contact Material: Copper; Contact Plating: Nickel; Housing Color: Black; Housing Material: Thermoplastic; Min Operating Temperature: -25°C; Max Operating Temperature: 85°C; Package Quantity: 280; Termination: Through Hole; Connector Type: Jack; Contact Gender: Male; Orientation: Horizontal; Packaging: Bulk; Diameter: 2.1mm; Lead Free: Lead Free; Flammability Rating: UL94 V-0
footprint PJ-102AH
pins: 1, 2, 3

## DC-005-A200
designator J?  Manufacturer Part Number: DC-005-A200  (hidden comment: *)
5.5 mm x 2 mm, 30V, 3A Barrel jack; Manufacturer: Xunpu; Supplier 1: LCSC; RoHS: No; Stock 1: 33970; Pricing 1: 5=0.1077, 50=0.0871, 150=0.0764, 500=0.0636, 2500=0.0606, 5000=0.0585 (USD); Supplier Part Number 1: C720557
footprint DC-005-A200
pins: 1 TIP, 2 SLEEVE, 3 SWITCH

## debug_header
designator J?, comment Cortex Debug  (no BOM)
Tag-connect 6-pin pogo header; pickable: no
footprint debug_header
footprint debug_header_dual
pins: 1 VCC (power), 2 SWDIO (io), 3 ~{RESET} (io), 4 SWCLK (io), 5 GND (power), 6 SWO (io)

## DMN3404L-7
designator Q?  Package: SOT-23-3  DS Breakdown Voltage-Min: 30V  Drain Current-Max (ID): 5.8A  Manufacturer Part Number: DMN3404L-7  (hidden comment: *)
N-FET, 30 V, 5.8 A, SOT-23-3; Manufacturer: Diodes; Package Body Material: Plastic; Transistor Element Material: SILICON; Polarity/Channel Type: N-CHANNEL; Additional Feature: HIGH RELIABILITY; Drain-source On Resistance-Max: 28mR; FET Technology: METAL-OXIDE SEMICONDUCTOR; Number of Elements: 1; Operating Mode: ENHANCEMENT MODE; Power Dissipation-Max (Abs): 1.4W; Pulsed Drain Current-Max (IDM): 30A; Time @ Peak Reflow Temperature-Max (s): 40s; Transistor Application: SWITCHING; Qualification Status: Not Qualified; Supplier 1: Digi-Key; RoHS: Yes; Category: MOSFETs; Stock 1: 150000; Pricing 1: 3000=0.07535, 6000=0.06781, 15000=0.06028, 30000=0.05651, 75000=0.05011, 150000=0.04822 (USD); Pins: 3; Package Shape: Rectangular; Terminal Finish: Tin; Max Operating Temperature: 150°C; JESD-609 Code: e3; Drain Current-Max (Abs) (ID): 5.8A; JESD-30 Code: R-PDSO-G3; Moisture Sensitivity Level: 1; Package Style: SMALL OUTLINEMeter; Peak Reflow Temperature (Cel): 260°C; Surface Mount: Yes; Terminal Form: Gull Wing; Terminal Position: DUAL; Reach SVHC Compliant: Yes; RoHS Compliant: Yes; ComponentLink1URL: https://datasheet.ciiva.com:443/pdfs/VipMasterIC/IC/DIOD/DIODS20277/DIODS20277-1.pdf?src-supplier=IHS+Markit; ComponentLink1Description: https://datasheet.ciiva.com:443/pdfs/VipMasterIC/IC/DIOD/DIODS20277/DIODS20277-1.pdf?src-supplier=IHS+Markit; ComponentLink2URL: https://datasheet.ciiva.com/4444/ds31787-65102-4444489.pdf?src-supplier=Mouser; ComponentLink2Description: https://datasheet.ciiva.com/4444/ds31787-65102-4444489.pdf?src-supplier=Mouser; ComponentLink3URL: https://datasheet.ciiva.com/8115/ds31787-8115384.pdf?src-supplier=Avnet; ComponentLink3Description: https://datasheet.ciiva.com/8115/ds31787-8115384.pdf?src-supplier=Avnet; ComponentLink4URL: https://datasheet.ciiva.com/16508/ds31787-16508477.pdf?src-supplier=Future+Electronics; ComponentLink4Description: https://datasheet.ciiva.com/16508/ds31787-16508477.pdf?src-supplier=Future+Electronics; ComponentLink5URL: https://datasheet.ciiva.com/8023/ds31787-8023981.pdf?src-supplier=Element14; ComponentLink5Description: https://datasheet.ciiva.com/8023/ds31787-8023981.pdf?src-supplier=Element14; ComponentLink6URL: https://datasheet.ciiva.com/934/ds31787-934594.pdf?src-supplier=Digi-Key; ComponentLink6Description: https://datasheet.ciiva.com/934/ds31787-934594.pdf?src-supplier=Digi-Key; ComponentLink7URL: https://datasheet.ciiva.com/934/ds31787-934595.pdf?src-supplier=Digi-Key; ComponentLink7Description: https://datasheet.ciiva.com/934/ds31787-934595.pdf?src-supplier=Digi-Key; ComponentLink8URL: https://datasheet.ciiva.com/934/ds31787-934593.pdf?src-supplier=Digi-Key; ComponentLink8Description: https://datasheet.ciiva.com/934/ds31787-934593.pdf?src-supplier=Digi-Key; Supplier Part Number 1: DMN3404LDITR-ND
footprint SOT-23-3
pins: 1 G, 2 S, 3 D

## DMP4051LK3-13
designator Q?  Continuous Drain Current (ID): 10.5A  Drain to Source Voltage (Vdss): 40V  Manufacturer Part Number: DMP4051LK3-13  Polarity: P-FET  Case/Package: TO-252  (hidden comment: *)
P-FET, 40V, 10.5A, TO-252; Manufacturer: Diodes Zetex; Rds On Max: 51mR; Input Capacitance: 674pF; Max Power Dissipation: 4.18W; Rise Time: 14.1ns; Number of Channels: 1; Drain to Source Resistance: 41mR; Fall Time: 14.3ns; Turn-Off Delay Time: 25.1ns; Turn-On Delay Time: 2.3ns; Threshold Voltage: -3V; Gate to Source Voltage (Vgs): 20V; Value: 51mR; Supplier 1: LCSC; RoHS: Yes; Category: MOSFETs; Stock 1: 7860; Pricing 1: 5=0.2313, 50=0.1826, 150=0.1618, 500=0.1358, 2500=0.1193, 5000=0.1123 (USD); Mounting Technology: Surface Mount; Pins: 3; Weight: 0.139332oz; Min Operating Temperature: -55°C; Max Operating Temperature: 150°C; Package Quantity: 1; Packaging: Tape and Reel; Series: -; Drain-source On Resistance-Max: 51mR; Length: 6.7mm; Width: 6.2mm; Height: 2.39mm; Reach SVHC Compliant: No; Lead Free: Lead Free; RoHS Compliant: Yes; ComponentLink1URL: https://datasheet.ciiva.com/935/dmp4051lk3-935120.pdf?src-supplier=Digikey; ComponentLink1Description: https://datasheet.ciiva.com/935/dmp4051lk3-935120.pdf?src-supplier=Digikey; ComponentLink2URL: https://datasheet.ciiva.com/4443/dmp4051lk3-70059-4443156.pdf?src-supplier=Mouser; ComponentLink2Description: https://datasheet.ciiva.com/4443/dmp4051lk3-70059-4443156.pdf?src-supplier=Mouser; ComponentLink3URL: https://datasheet.ciiva.com/935/dmp4051lk3-935119.pdf?src-supplier=Digikey; ComponentLink3Description: https://datasheet.ciiva.com/935/dmp4051lk3-935119.pdf?src-supplier=Digikey; ComponentLink4URL: https://datasheet.ciiva.com/935/dmp4051lk3-935121.pdf?src-supplier=Digikey; ComponentLink4Description: https://datasheet.ciiva.com/935/dmp4051lk3-935121.pdf?src-supplier=Digikey; ComponentLink5URL: https://datasheet.ciiva.com/16434/dmp4051lk3-16434015.pdf?src-supplier=Future+Electronics; ComponentLink5Description: https://datasheet.ciiva.com/16434/dmp4051lk3-16434015.pdf?src-supplier=Future+Electronics; Supplier Part Number 1: C397952
footprint TO-252 (D-PAK, 3-Pads, Body 6.20x6.71mm (max), IPC Medium Density)
pins: 1 G, 2 D, 3 S

## ESP32-C3-WROOM-02-N4
designator M?, comment Bluetooth, WiFi  Manufacturer Part Number: ESP32-C3-WROOM-02-N4
ESP32-C3 chipset, PCB antenna, SMD-19; Manufacturer: Espressif Systems; Supplier 1: Digikey; RoHS: No; Stock 1: 9675; Pricing 1: 1=1.9, 650=1.9 (USD); ComponentLink1URL: https://datasheet.octopart.com/ESP32-C3-WROOM-02-N4-Espressif-Systems-datasheet-165560559.pdf?src-supplier=TME; ComponentLink1Description: https://datasheet.octopart.com/ESP32-C3-WROOM-02-N4-Espressif-Systems-datasheet-165560559.pdf?src-supplier=TME; Supplier Part Number 1: 1965-ESP32-C3-WROOM-02-N4CT-ND
pins: 1 3V3 (power) "Power supply", 2 EN (in) "High: on, enables the chip. Low: off, the chip powers off.  Note: Do not leave the EN pin floating.", 3 GPIO4/ADC1_CH4/FSPIHD/MTMS (io) "GPIO4, ADC1_CH4, FSPIHD, MTMS", 4 GPIO5/ADC2_CH0/FSPIWP/MTDI (io) "GPIO5, ADC2_CH0, FSPIWP, MTDI", 5 GPIO6/FSPICLK/MTCK (io) "GPIO6, FSPICLK, MTCK", 6 GPIO7/FSPID/MTDO (io) "GPIO7, FSPID, MTDO", 7 GPIO8 (io), 8 GPIO9 (io), 9 GND (power) "Ground", 10 GPIO10/FSPICS0 (io) "GPIO10, FSPICS0", 11 GPIO20/U0RXD (io) "GPIO20, U0RXD", 12 GPIO21/U0TXD (io) "GPIO21, U0TXD", 13 GPIO18/USB_D- (io) "GPIO18, USB_D-", 14 GPIO19/USB_D+ (io) "GPIO19, USB_D+", 15 GPIO3/ADC1_CH3 (io) "GPIO3, ADC1_CH3", 16 GPIO2/ADC1_CH2/FSPIQ (io) "GPIO2, ADC1_CH2, FSPIQ", 17 GPIO1/ADC1_CH1/XTAL_32K_N (io) "GPIO1, ADC1_CH1, XTAL_32K_N", 18 GPIO0/ADC1_CH0/XTAL_32K_P (io) "GPIO0, ADC1_CH0, XTAL_32K_P", 19 GND (power) "Ground"

## ESP32-C6-MINI-1-N4
designator M?, comment Bluetooth, WiFi  Manufacturer Part Number: ESP32-C6-MINI-1-N4
ESP32-C6 chipset, PCB antenna, SMD-53; Manufacturer: Espressif Systems; Supplier 1: Digikey; RoHS: No; Category: LDO; Stock 1: 3251; Pricing 1: 1=2.5 (USD); Supplier Part Number 1: 1965-ESP32-C6-MINI-1-N4CT-ND
footprint ESP32-C6-MINI-1 (ESP32-C6-MINI-1 Wi-Fi Module)
pins: 1 GND (power) "Ground", 2 GND (power) "Ground", 3 3V3 (power) "Power supply", 4 NC, 5 GPIO2/LP_GPIO2/LP_UART_RTSN/ADC1_CH2/FSPIQ (io) "GPIO2, LP_GPIO2, LP_UART_RTSN, ADC1_CH2, FSPIQ", 6 GPIO3/LP_GPIO3/LP_UART_CTSN/ADC1_CH3 (io) "GPIO3, LP_GPIO3, LP_UART_CTSN, ADC1_CH3", 7 NC, 8 EN (in) "High: on, enables the chip. Low: off, the chip powers off.  Note: Do not leave the EN pin floating.", 9 MTMS/GPIO4/LP_GPIO4/LP_UART_RXD/ADC1_CH4/FSPIHD (io) "MTMS, GPIO4, LP_GPIO4, LP_UART_RXD, ADC1_CH4, FSPIHD", 10 MTDI/GPIO5/LP_GPIO5/LP_UART_TXD/ADC1_CH5/FSPIWP (io) "MTDI, GPIO5, LP_GPIO5, LP_UART_TXD, ADC1_CH5, FSPIWP", 11 GND (power) "Ground", 12 GPIO0/XTAL_32K_P/LP_GPIO0/LP_UART_DTRN/ADC1_CH0 (io) "GPIO0, XTAL_32K_P, LP_GPIO0, LP_UART_DTRN, ADC1_CH0", 13 GPIO1/XTAL_32K_N/LP_GPIO1/LP_UART_DSRN/ADC1_CH1 (io) "GPIO1, XTAL_32K_N, LP_GPIO1, LP_UART_DSRN, ADC1_CH1", 14 GND (power) "Ground", 15 MTCK/GPIO6/LP_GPIO6/LP_I2C_SDA/ADC1_CH6/FSPICLK (io) "MTCK, GPIO6, LP_GPIO6, LP_I2C_SDA, ADC1_CH6, FSPICLK", 16 MTDO/GPIO7/LP_GPIO7/LP_I2C_SCL/FSPID (io) "MTDO, GPIO7, LP_GPIO7, LP_I2C_SCL, FSPID", 17 GPIO12/USB_D- (io) "GPIO12, USB_D-", 18 GPIO13/USB_D+ (io) "GPIO13, USB_D+", 19 GPIO14 (io), 20 GPIO15 (io), 21 NC, 22 GPIO8 (io), 23 GPIO9 (io), 24 GPIO18/SDIO_CMD/FSPICS2 (io) "GPIO18, SDIO_CMD, FSPICS2", 25 GPIO19/SDIO_CLK/FSPICS3 (io) "GPIO19, SDIO_CLK, FSPICS3", 26 GPIO20/SDIO_DATA0/FSPICS4 (io) "GPIO20, SDIO_DATA0, FSPICS4", 27 GPIO21/SDIO_DATA1/FSPICS5 (io) "GPIO21, SDIO_DATA1, FSPICS5", 28 GPIO22/SDIO_DATA2 (io) "GPIO22, SDIO_DATA2", 29 GPIO23/SDIO_DATA3 (io) "GPIO23, SDIO_DATA3", 30 U0RXD/GPIO17/FSPICS1 (io) "U0RXD, GPIO17, FSPICS1", 31 U0TXD/GPIO16/FSPICS0 (io) "U0TXD, GPIO16, FSPICS0", 32 NC, 33 NC, 34 NC, 35 NC, 36 GND (power) "Ground", 37 GND (power) "Ground", 38 GND (power) "Ground", 39 GND (power) "Ground", 40 GND (power) "Ground", 41 GND (power) "Ground", 42 GND (power) "Ground", 43 GND (power) "Ground", 44 GND (power) "Ground", 45 GND (power) "Ground", 46 GND (power) "Ground", 47 GND (power) "Ground", 48 GND (power) "Ground", 49 GND (power) "Ground", 50 GND (power) "Ground", 51 GND (power) "Ground", 52 GND (power) "Ground", 53 GND (power) "Ground"

## FH35C-15S-0.3SHW(50)
designator J?  Manufacturer Part Number: FH35C-15S-0.3SHW(50)  (hidden comment: *)
15-Pin staggered flat flex connector, top and bottom contacts; Manufacturer: HRS; Connector Type: CARD EDGE CONNECTOR; Contact Resistance: 100mR; Contact Style: BELLOWED TYPE; Dielectric Withstanding Voltage (AC): 90V; Durability: 10Cycles; Insulation Resistance: 50MR; Number Of PCB Rows: 2; Rated Current (Signal): 200mA; Number of Contacts: 15; Body Breadth: 0.035inch; Body Depth: 0.132inch; Body Length: 0.24inch; Mating Contact Pitch: 0.024inch; Mounting Option 1: LOCKING; PCB Contact Row Spacing: 2.8702mm; Reliability: COMMERCIAL; Supplier 1: Digikey; Category: FFC / FPC; Stock 1: 3489; Pricing 1: 1=1.87, 10=1.525, 25=1.4056, 50=1.3216, 100=1.2428, 250=1.14576, 500=1.07746, 1000=1.01326, 2500=0.9375 (USD); Mounting Technology: Board; Contact Material: Bronze; Contact Finish - Mating: AU ON NI; Min Operating Temperature: -55°C; Max Operating Temperature: 85°C; Contact Pattern: STAGGERED; Mounting Style: RIGHT ANGLE; Number of Rows Loaded: 2; PCB Contact Pattern: STAGGERED; Termination: SMD/SMT; Terminal Pitch: 0.6096mm; RoHS Compliant: Yes; ComponentLink1URL: https://datasheet.ciiva.com:443/pdfs/VipMasterIC/IC/HIRO/HIRO-S-A0001800865/HIRO-S-A0001800865-1.pdf?src-supplier=IHS+Markit; ComponentLink1Description: https://datasheet.ciiva.com:443/pdfs/VipMasterIC/IC/HIRO/HIRO-S-A0001800865/HIRO-S-A0001800865-1.pdf?src-supplier=IHS+Markit; ComponentLink2URL: https://datasheet.ciiva.com/29758/ed-fh35c-20140305-29758967.pdf?src-supplier=Digikey; ComponentLink2Description: https://datasheet.ciiva.com/29758/ed-fh35c-20140305-29758967.pdf?src-supplier=Digikey; Supplier Part Number 1: 26-FH35C-15S-0.3SHW(50)CT-ND
footprint FH35C-15S-0.3SHW(50) (Flat flex connector)
pins: 1, 2, 3, 4, 5, 6, 7, 8, 9, 10, 11, 12, 13, 14, 15, MP

## fiducial-0.5
designator FID?, comment Package: 0.5mm  (hidden comment: FID?)  (no BOM)
0.5mm round fiducial
footprint fiducial-0.5

## GCM1555C1H300FA16D
designator C?  value 30pF  Rated DC Voltage (URdc): 50V  Case/Package: 0402  (hidden comment: *)
30 pF, 50 V, C0G, 0402 Chip capacitor; Manufacturer: Murata; Manufacturer Part Number: GCM1555C1H300FA16D; Dielectric Material: Ceramic; Multilayer: Yes; Tolerance  (fill in as +-): 1%; Reference Standard: AEC-Q200; Supplier 1: LCSC; RoHS: Yes; Category: Ceramic Capacitors; Stock 1: 20680; Pricing 1: 20=0.0242, 200=0.0198, 600=0.0174, 2000=0.0159, 10000=0.0143, 20000=0.0137 (USD); Mounting Technology: Surface Mount; Pins: 2; Package Shape: Rectangular; Min Operating Temperature: -55°C; Max Operating Temperature: 125°C; Capacitor Type: Ceramic; Packaging: Tape and Reel; Tolerance (fill in as +-): 1%; Temperature Characteristics Code: C0G; Termination: Wraparound; Reach SVHC Compliant: Yes; RoHS Compliant: Yes; ComponentLink1URL: https://psearch.en.murata.com:443/capacitor/product/GCM1555C1H300FA16%23.pdf?src-supplier=IHS+Markit; ComponentLink1Description: https://psearch.en.murata.com:443/capacitor/product/GCM1555C1H300FA16%23.pdf?src-supplier=IHS+Markit; Supplier Part Number 1: C2987943
footprint 0402_capacitor (0402 chip capacitor)
pins: 1, 2

## GRM32EC72A106KE05L
designator C?  Voltage Rating: 100V  Case/Package: 1210  Capacitance: 10 µF  (hidden comment: *)
10 µF, 100 V, 1210 Ceramic capacitor; Manufacturer: Murata; Manufacturer Part Number: GRM32EC72A106KE05L; Tolerance: 10%; Supplier 1: Digi-Key; Stock 1: 4827; Pricing 1: 1=1.38, 10=1.087, 100=0.8151, 500=0.61582 (USD); Mount: Surface Mount; Case Code (Imperial): 1210; Case Code (Metric): 3225; Min Operating Temperature: -55°C; Max Operating Temperature: 125°C; Packaging: Tape and Reel; ComponentLink1URL: http://search.murata.co.jp/Ceramy/image/img/A01X/G101/ENG/GRM32EC72A106KE05-01.pdf?src-supplier=Digi-Key; ComponentLink1Description: http://search.murata.co.jp/Ceramy/image/img/A01X/G101/ENG/GRM32EC72A106KE05-01.pdf?src-supplier=Digi-Key; Supplier Part Number 1: 490-16266-1-ND
footprint 1210_capacitor (1210 chip capacitor)
pins: 1, 2